# EAGLE library part L01-50VA (library trafo-alfamag)
TOROID TRANSFORMER
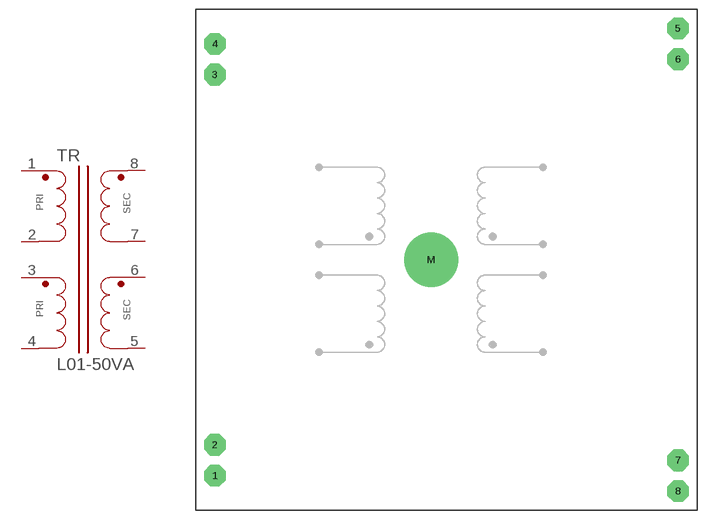
[diagram p2: symbol with the pads of L01-50VA; footprint L01-50VA]

Designator prefix TR

## L01-50VA  [L01-50VA]
1  1  pas
2  2  pas
3  3  pas
4  4  pas
5  5  pas
6  6  pas
7  7  pas
8  8  pas

## Footprint L01-50VA (pad centres in mm)
TOROID TRANSFORMER L x W x H = 82.4 x 82.4 x 37.5 mm X x Y = 76.2 x 76.2 mm
drill 1.422 pad 3.556 octagon: 1 -38.1,-35.56; 2 -38.1,-30.48; 3 -38.1,30.48; 4 -38.1,35.56; 5 38.1,38.1; 6 38.1,33.02; 7 38.1,-33.02; 8 38.1,-38.1
drill 4.699 pad 8.89: M -2.54,0